# Altium footprint library raspberry_pi.PcbLib: 1 footprints
Each footprint in its own frame and in the unit in brackets; x right, y up, seen from the top. Pads: shape width x height; smd on the part's side, far side on the other; paste and mask are expansions set on the pad; w line width, h text height; cw(c..) or ccw(c..) is an arc to the next point about the centre after c.
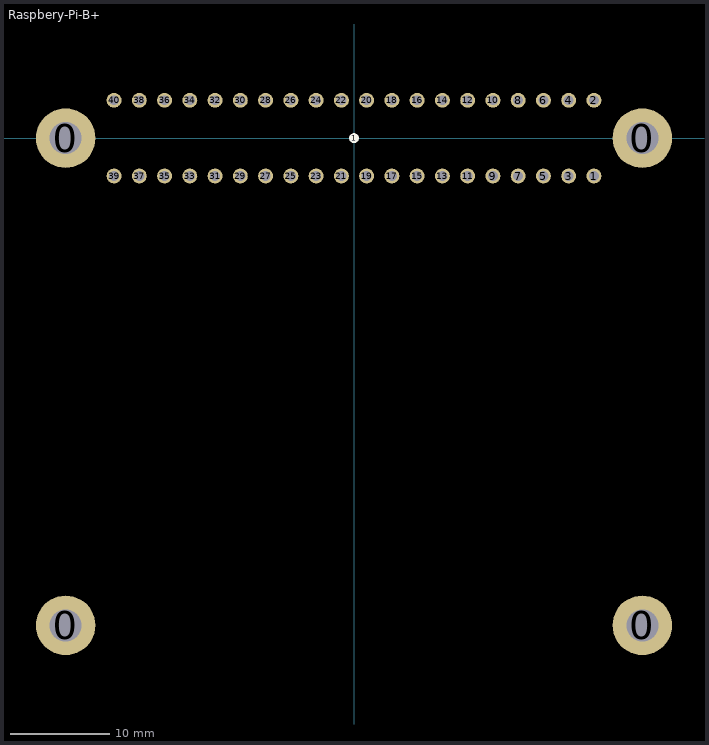
[diagram p0: the footprint, top view; thin cyan lines are the x and y axes]

## Raspbery-Pi-B+ [mm]
pads (45):
  round 6 hole 3.2: 0(-29,-49) 0(-29,0) 0(29,-49) 0(29,0)
  round 1 on Top Overlay: 1(0,0)
  round 1.5 hole 1: 1(24.13,-3.81) 2(24.13,3.81) 3(21.59,-3.81) 4(21.59,3.81) 5(19.05,-3.81) 6(19.05,3.81) 7(16.51,-3.81) 8(16.51,3.81) 9(13.97,-3.81) 10(13.97,3.81) 11(11.43,-3.81) 12(11.43,3.81) 13(8.89,-3.81) 14(8.89,3.81) 15(6.35,-3.81) 16(6.35,3.81) 17(3.81,-3.81) 18(3.81,3.81) 19(1.27,-3.81) 20(1.27,3.81) 21(-1.27,-3.81) 22(-1.27,3.81) 23(-3.81,-3.81) 24(-3.81,3.81) 25(-6.35,-3.81) 26(-6.35,3.81) 27(-8.89,-3.81) 28(-8.89,3.81) 29(-11.43,-3.81) 30(-11.43,3.81) 31(-13.97,-3.81) 32(-13.97,3.81) 33(-16.51,-3.81) 34(-16.51,3.81) 35(-19.05,-3.81) 36(-19.05,3.81) 37(-21.59,-3.81) 38(-21.59,3.81) 39(-24.13,-3.81) 40(-24.13,3.81)
Mechanical 1:
  lines w0.4: 29,0 29.166,0
3D body: height 16.51, standoff 3.38, extent -25.654,-5.08 25.654,5.334
3D body: height 10, standoff 0, extent -32,-3 -26.024,2.988
3D body: height 10, standoff 0, extent -31.976,-52 -26,-46.012
3D body: height 10, standoff 0, extent 26,-52 31.976,-46.012
3D body: height 10, standoff 0, extent 26,-3 31.976,2.988
3D body: height 7, standoff -3, extent 22.86,2.56 25.4,5.06
3D body: height 7, standoff -3, extent 22.86,-5.06 25.4,-2.56
3D body: height 7, standoff -3, extent 20.32,2.56 22.86,5.06
3D body: height 7, standoff -3, extent 20.32,-5.06 22.86,-2.56
3D body: height 7, standoff -3, extent 5.08,-5.06 7.62,-2.56
3D body: height 7, standoff -3, extent 7.62,-5.06 10.16,-2.56
3D body: height 7, standoff -3, extent 10.16,-5.06 12.7,-2.56
3D body: height 7, standoff -3, extent 10.16,2.56 12.7,5.06
3D body: height 7, standoff -3, extent 7.62,2.56 10.16,5.06
3D body: height 7, standoff -3, extent 5.08,2.56 7.62,5.06
3D body: height 7, standoff -3, extent 17.78,-5.06 20.32,-2.56
3D body: height 7, standoff -3, extent 15.24,-5.06 17.78,-2.56
3D body: height 7, standoff -3, extent 12.7,-5.06 15.24,-2.56
3D body: height 7, standoff -3, extent 17.78,2.56 20.32,5.06
3D body: height 7, standoff -3, extent 15.24,2.56 17.78,5.06
3D body: height 7, standoff -3, extent 12.7,2.56 15.24,5.06
3D body: height 7, standoff -3, extent -10.16,-5.06 -7.62,-2.56
3D body: height 7, standoff -3, extent -7.62,-5.06 -5.08,-2.56
3D body: height 7, standoff -3, extent -5.08,-5.06 -2.54,-2.56
3D body: height 7, standoff -3, extent -5.08,2.56 -2.54,5.06
3D body: height 7, standoff -3, extent -7.62,2.56 -5.08,5.06
3D body: height 7, standoff -3, extent -10.16,2.56 -7.62,5.06
3D body: height 7, standoff -3, extent 2.54,-5.06 5.08,-2.56
3D body: height 7, standoff -3, extent 0,-5.06 2.54,-2.56
3D body: height 7, standoff -3, extent -2.54,-5.06 0,-2.56
3D body: height 7, standoff -3, extent 2.54,2.56 5.08,5.06
3D body: height 7, standoff -3, extent 0,2.56 2.54,5.06
3D body: height 7, standoff -3, extent -2.54,2.56 0,5.06
3D body: height 7, standoff -3, extent -17.78,2.56 -15.24,5.06
3D body: height 7, standoff -3, extent -15.24,2.56 -12.7,5.06
3D body: height 7, standoff -3, extent -12.7,2.56 -10.16,5.06
3D body: height 7, standoff -3, extent -17.78,-5.06 -15.24,-2.56
3D body: height 7, standoff -3, extent -15.24,-5.06 -12.7,-2.56
3D body: height 7, standoff -3, extent -12.7,-5.06 -10.16,-2.56
3D body: height 7, standoff -3, extent -25.4,2.56 -22.86,5.06
3D body: height 7, standoff -3, extent -22.86,2.56 -20.32,5.06
3D body: height 7, standoff -3, extent -20.32,2.56 -17.78,5.06
3D body: height 7, standoff -3, extent -20.32,-5.06 -17.78,-2.56
3D body: height 7, standoff -3, extent -22.86,-5.06 -20.32,-2.56
3D body: height 7, standoff -3, extent -25.4,-5.06 -22.86,-2.56
3D body: height 21.7, standoff 2.3, extent -54.65,-55 32.5,3.5